# Altium footprint library Diodes.PcbLib: 28 footprints (part 1 of 2)
Each footprint in its own frame and in the unit in brackets; x right, y up, seen from the top. Pads: shape width x height; smd on the part's side, far side on the other; paste and mask are expansions set on the pad; w line width, h text height; cw(c..) or ccw(c..) is an arc to the next point about the centre after c.
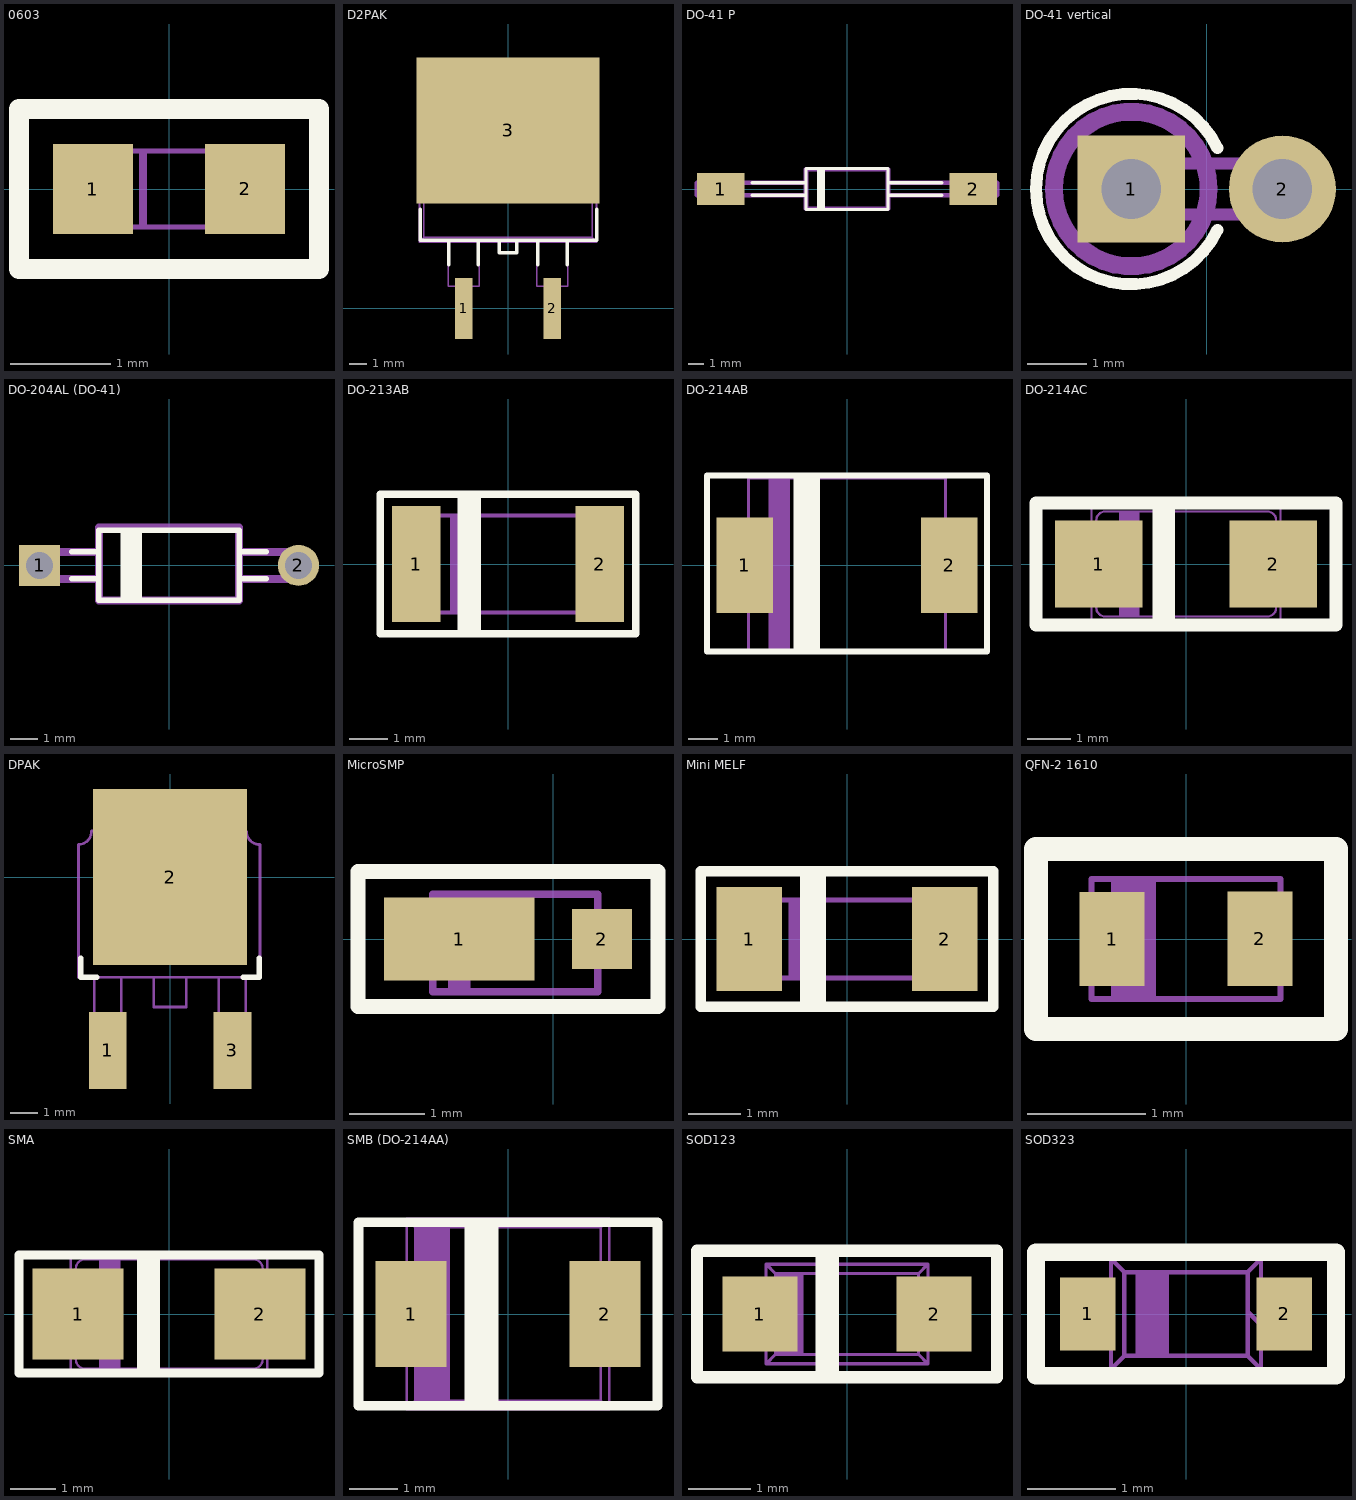
[diagram p0: the footprints below, top view; thin cyan lines are the x and y axes]

## 0603 [mm]
pads (2):
  rect 0.8x0.9 smd: 1(-0.762,0) 2(0.762,0)
Top Overlay:
  lines w0.2: -1.5,-0.8 1.5,-0.8 1.5,0.8 -1.5,0.8 -1.5,-0.8
Mechanical 1:
  lines w0.05: -0.762,-0.3 -0.475,-0.3 -0.475,0.291 -0.762,0.291 ; -0.762,0.2 cw(c-0.762,0) -0.762,-0.2 -0.762,-0.381 0.762,-0.381 0.762,-0.2 cw(c0.762,0) 0.762,0.2 ; -0.762,0.2 -0.762,0.381 0.762,0.381 0.762,0.2 ; -0.275,-0.381 -0.275,0.381 ; -0.244,-0.381 -0.244,0.381 ; 0.762,-0.3 0.475,-0.3 0.475,0.291 0.762,0.291
  text ".Designator" at -1.175,0.558 h0.7
  text ".Comment" at -0.457,-0.127 h0.51
3D body "0603.STEP": height 0.64, standoff -0.02, extent -0.8,-0.45 0.8,0.45

## D2PAK [mm]
pads (3):
  rect 1.016x3.504 smd: 1(-2.54,0) 2(2.54,0)
  rect 10.49x8.38 smd: 3(0,10.213)
Top Overlay:
  lines w0.2: -5.04,5.7 -5.04,3.922 5.1,3.922 5.1,5.7 ; -3.4,2.5 -3.4,3.922 ; -1.7,2.5 -1.7,3.922 ; -0.5,3.922 -0.5,3.2 0.5,3.2 0.5,3.922 ; 1.7,2.5 1.7,3.922 ; 3.4,2.5 3.4,3.922
Mechanical 1:
  lines w0.1: -3.429,3.81 -3.429,1.27 -2.921,1.27 -2.921,-1.143 -2.159,-1.143 -2.159,1.27 -1.651,1.27 -1.651,3.81 ; -0.508,3.81 -0.508,3.175 0.508,3.175 0.508,3.81 ; 1.651,3.81 1.651,1.27 2.159,1.27 2.159,-1.143 2.921,-1.143 2.921,1.27 3.429,1.27 3.429,3.81 ; -5.08,3.81 5.08,3.81 ; -5.08,3.81 -4.826,4.064 ; -5.08,3.81 -5.08,13.462 -4.445,14.097 4.445,14.097 5.08,13.462 5.08,3.81 ; -4.826,4.064 4.826,4.064 ; -4.826,4.064 -4.826,12.827 ; -4.826,12.827 4.826,12.827 ; -4.826,12.827 -5.08,13.081 5.08,13.081 4.826,12.827 ; 4.826,4.064 5.08,3.81 ; 4.826,4.064 4.826,12.827
  text "'.Comment'" at -4.699,4.191 h2
  text "'.Designator'" at 5.461,13.208 h2
3D body "D2PAK.step": height 4.88, standoff -0.13, extent -5.08,-1.161 5.08,14.103

## DO-41 P [mm]
pads (2):
  rect 3x2 smd: 1(-8,0) 2(8,0)
Top Overlay:
  rectangle: -1.9,-1.3 -1.4,1.3
  lines w0.2: -6,-0.4 -2.6,-0.4 ; -6,0.4 -2.6,0.4 ; 2.6,-0.4 6,-0.4 ; 2.6,0.4 6,0.4 ; -2.6,-1.3 -2.6,1.3 2.6,1.3 2.6,-1.3 -2.6,-1.3
Mechanical 1:
  lines w0.3: -2.6,-0.4 -9.5,-0.4 -9.5,0.4 -2.6,0.4 ; -1.75,-1.25 -1.75,1.25 ; 2.6,-0.4 9.5,-0.4 9.5,0.4 2.6,0.4 ; -2.6,-1.25 -2.6,1.25 2.6,1.25 2.6,-1.25 -2.6,-1.25
  text ".Comment" at -1.3,-0.7 h1.52
  text ".Designator" at -3,2 h1.52

## DO-41 vertical [mm]
pads (2):
  rect 1.8x1.8 hole 1: 1(-1.27,0)
  round 1.8 hole 1: 2(1.27,0)
Top Overlay:
  lines w0.2: 0.176,-0.689 cw(c-1.27,0) 0.176,0.689
Mechanical 3:
  circle w0.3: c-1.27,0 r1.3
  lines w0.2: -1.27,-0.43 cw(c-1.27,0) -1.27,0.43 1.27,0.43 cw(c1.27,0) 1.27,-0.43 -1.27,-0.43
  text ".Comment" at -2.642,-2.743 h2
  text ".Designator" at -2.692,1.524 h2
3D body "User Library-Diod DO-41 Vertical.STEP": height 10.64, standoff -3.5, extent -2.635,-1.365 1.7,1.365

## DO-204AL (DO-41) [mm]
pads (2):
  rect 1.524x1.524 hole 1: 1(-4.8,0)
  round 1.524 hole 1: 2(4.8,0)
Top Overlay:
  rectangle: -1.8,-1.3 -1,1.3
  lines w0.2: -3.6,-0.5 -2.6,-0.5 ; -3.6,0.5 -2.6,0.5 ; 2.6,-0.5 3.6,-0.5 ; 2.6,0.5 3.6,0.5 ; -2.6,-1.3 -2.6,1.3 2.6,1.3 2.6,-1.3 -2.6,-1.3
Mechanical 3:
  rectangle: -1.75,-1.3 -1,1.4
  lines w0.3: -2.6,-0.5 -5,-0.5 -5,0.5 -2.6,0.5 ; 2.6,-0.5 5,-0.5 5,0.5 2.6,0.5 ; -2.6,-1.3 -2.6,1.4 2.6,1.4 2.6,-1.3 -2.6,-1.3
  text ".Comment" at -0.75,-0.25 h1
  text ".Designator" at -2.25,1.75 h1
3D body "User Library-DO-41_375mil.STEP": height 3.33, standoff -2.02, extent -5.192,-1.3 5.192,1.4

## DO-213AB [mm]
pads (2):
  rect 1.25x3 smd: 1(-2.375,0) 2(2.375,0)
Top Overlay:
  rectangle: -1.3,-1.8 -0.7,1.8
  lines w0.2: -3.3,-1.8 3.3,-1.8 3.3,1.8 -3.3,1.8 -3.3,-1.8
Mechanical 1:
  rectangle: -1.5,-1.25 -1,1.25
  lines w0.1: -2,-1.25 -2,1.25 ; 2,-1.25 2,1.25 ; -2.5,-1.25 -2.5,1.25 2.5,1.25 2.5,-1.25 -2.5,-1.25
  text ".Comment" at -0.8,-0.5 h1
  text ".Designator" at -0.5,1.5 h1
3D body "DO-213AB.step": height 2.64, standoff -0.04, extent -2.6,-1.37 2.6,1.3

## DO-214AB [mm]
pads (2):
  rect 1.9x3.2 smd mask+0.076: 1(-3.429,0) 2(3.429,0)
Top Overlay:
  rectangle: -1.8,-2.9 -0.9,3
  lines w0.2: -4.7,-2.9 -4.7,3 4.7,3 4.7,-2.9 -4.7,-2.9
Mechanical 1:
  region: -1.905,2.921 -2.629,2.921 -2.629,-2.921 -1.905,-2.921
  lines w0.1: -3.302,-1.397 -3.81,-1.397 -3.81,1.397 -3.302,1.397 ; 3.302,-1.397 3.81,-1.397 3.81,1.397 3.302,1.397 ; -3.302,-2.921 3.302,-2.921 3.302,2.921 -3.302,2.921 -3.302,-2.921
  text ".Comment" at -1.397,-2.286 h0.8
  text ".Designator" at -0.635,3.302 h0.8
3D body "User Library-DO-214AB-SMC.step": height 2.45, standoff 0, extent -3.925,-2.95 3.875,2.95

## DO-214AC [mm]
pads (2):
  rect 2x2 smd mask+0.076: 1(-2,0) 2(2,0)
Top Overlay:
  rectangle: -0.762,-1.397 -0.254,1.397
  lines w0.3: -3.429,-1.397 -3.429,1.397 3.429,1.397 3.429,-1.397 -3.429,-1.397
Mechanical 1:
  region: -1.065,1.2 -1.535,1.2 -1.535,-1.2 -1.065,-1.2
  lines w0.05: -2.39,-0.68 -2.39,0.68 ; -2.16,-0.73 -2.61,-0.73 -2.61,0.73 -2.16,0.73 ; 2.16,-0.73 2.61,-0.73 2.61,0.73 2.16,0.73 ; 2.38,-0.68 2.38,0.68 ; -2.16,-1.3 2.16,-1.3 2.16,1.3 -2.16,1.3 -2.16,-1.3 ; -2.05,-1 ccw(c-1.85,-1) -1.85,-1.2 1.86,-1.2 ccw(c1.86,-1) 2.06,-1 2.06,1 ccw(c1.86,1) 1.86,1.2 -1.85,1.2 ccw(c-1.85,1) -2.05,1 -2.05,-1
  text ".Comment" at -1.9,-0.2 h0.8
  text ".Designator" at -2,1.425 h0.8
3D body "DO-214AC.step": height 2.6, standoff 0.03, extent -2.775,-1.4 2.725,1.4

## DPAK [mm]
pads (3):
  rect 1.4x2.85 smd: 1(-2.3,-6.4) 3(2.3,-6.4)
  rect 5.7x6.5 smd: 2(0,0)
Top Overlay:
  lines w0.2: -3.3,-3 -3.3,-3.7 -2.7,-3.7 ; 2.7,-3.7 3.3,-3.7 3.3,-3
Mechanical 1:
  lines w0.1: -2.9,1.7 cw(c-3.388,1.688) -3.375,1.2 -3.375,-3.7 3.325,-3.7 3.325,1.2 cw(c3.313,1.688) 2.825,1.675 ; -2.875,1.7 2.7,1.7 ; -2.8,-3.7 -2.8,-7 -2,-7 -1.8,-7 -1.8,-3.7 ; -2.7,1.73 -2.7,2.325 -2.025,3 -0.975,3 -0.975,2.575 1.025,2.575 1.025,3 1.975,3 2.7,2.275 2.7,1.7 ; -0.6,-3.7 -0.6,-4.8 0.6,-4.8 0.6,-3.7 ; 1.8,-3.7 1.8,-7 2,-7 2.8,-7 2.8,-3.7 ; 2.8,1.7 2.7,1.7
  text ".Designator" at -3.048,3.556 h1.52
  text ".Comment" at -3.175,-3.175 h1.52
3D body "User Library-DPAK_TO-252AA.step": height 2.37, standoff -0.03, extent -3.367,-7.098 3.367,3.002

## MicroSMP [mm]
pads (2):
  rect 2x1.1 smd: 1(-1.25,0)
  rect 0.8x0.8 smd: 2(0.65,0)
Top Overlay:
  lines w0.2: -2.6,-0.9 -2.6,0 -2.6,0.9 1.4,0.9 1.4,-0.9 -2.6,-0.9
Mechanical 1:
  rectangle: -1.4,-0.7 -1.1,0.6
  lines w0.1: -1.6,-0.3 -1.9,-0.3 -1.9,0.3 -1.6,0.3 ; 0.6,-0.3 0.9,-0.3 0.9,0.3 0.6,0.3 ; -1.6,-0.7 -1.6,0.6 0.6,0.6 0.6,-0.7 -1.6,-0.7
  text "'.Comment'" at -1.1,-0.3 h0.5
  text "'.Designator'" at -1.7,0.9 h1
3D body "User Library-MicroSMP-1.STEP": height 0.66, standoff -0.02, extent -1.55,-0.65 0.95,0.65

## Mini MELF [mm]
pads (2):
  rect 1.25x2 smd: 1(-1.875,0) 2(1.875,0)
Top Overlay:
  rectangle: -0.9,-1.3 -0.4,1.3
  lines w0.2: -2.8,-1.3 2.8,-1.3 2.8,1.3 -2.8,1.3 -2.8,-1.3
Mechanical 1:
  rectangle: -1.125,-0.75 -0.625,0.75
  lines w0.1: -1.75,-0.75 1.75,-0.75 1.75,0.75 -1.75,0.75 -1.75,-0.75
  text ".Designator" at -0.375,0.875 h0.8
  text ".Comment" at -0.55,-0.25 h0.8
3D body "Mini MELF.STEP": height 1.5, standoff 0, extent -1.75,-0.75 1.75,0.75

## QFN-2 1610 [mm]
pads (2):
  rect 0.55x0.8 smd: 1(-0.625,0) 2(0.625,0)
Top Overlay:
  lines w0.2: -1.27,-0.762 1.27,-0.762 1.27,0.762 -1.27,0.762 -1.27,-0.762
Mechanical 1:
  rectangle: -0.635,-0.508 -0.254,0.508
  lines w0.05: -0.8,-0.508 0.8,-0.508 0.8,0.508 -0.8,0.508 -0.8,-0.508
  text ".Designator" at -1.175,0.558 h0.7
  text ".Comment" at -0.2,-0.2 h0.51
3D body "QFN-1610.STEP": height 0.55, standoff -0.01, extent -0.8,-0.5 0.8,0.5

## SMA [mm]
pads (2):
  rect 2x2 smd mask+0.076: 1(-2,0) 2(2,0)
Top Overlay:
  rectangle: -0.7,-1.3 -0.2,1.3
  lines w0.2: -3.3,-1.3 -3.3,1.3 3.3,1.3 3.3,-1.3 -3.3,-1.3
Mechanical 1:
  region: -1.065,1.2 -1.535,1.2 -1.535,-1.2 -1.065,-1.2
  lines w0.05: -2.39,-0.68 -2.39,0.68 ; -2.16,-0.73 -2.61,-0.73 -2.61,0.73 -2.16,0.73 ; 2.16,-0.73 2.61,-0.73 2.61,0.73 2.16,0.73 ; 2.38,-0.68 2.38,0.68 ; -2.16,-1.3 2.16,-1.3 2.16,1.3 -2.16,1.3 -2.16,-1.3 ; -2.05,-1 ccw(c-1.85,-1) -1.85,-1.2 1.86,-1.2 ccw(c1.86,-1) 2.06,-1 2.06,1 ccw(c1.86,1) 1.86,1.2 -1.85,1.2 ccw(c-1.85,1) -2.05,1 -2.05,-1
  text ".Comment" at -1.9,-0.2 h0.8
  text ".Designator" at -2,1.425 h0.8
3D body "SMA.STEP": height 2.3, standoff 0, extent -2.6,-1.45 2.6,1.45

## SMB (DO-214AA) [mm]
pads (2):
  rect 1.47x2.2 smd mask+0.076: 1(-2.01,0) 2(2.01,0)
Top Overlay:
  rectangle: -0.9,-1.9 -0.2,1.9
  lines w0.2: -3.1,-1.9 3.1,-1.9 3.1,1.9 -3.1,1.9 -3.1,-1.9
Mechanical 1:
  rectangle: -1.925,-1.8 -1.2,1.8
  lines w0.05: -2.1,-1.05 -2.7,-1.05 -2.7,1.05 -2.1,1.05 ; 2.075,1.975 2.1,1.975 ; 2.1,-1.05 2.7,-1.05 2.7,1.05 2.1,1.05 ; -2.1,-1.975 2.1,-1.975 ; -2.1,-1.975 -2.1,1.975 ; -2.1,-1.975 -1.925,-1.8 ; -2.1,1.975 2.1,1.975 ; -2.1,1.975 -1.925,1.8 ; -1.925,-1.8 1.925,-1.8 ; -1.925,-1.8 -1.925,1.8 ; -1.925,1.8 -1.9,1.8 1.925,1.8 ; 1.925,-1.8 1.925,1.8 ; 1.925,-1.8 2.1,-1.975 ; 1.925,1.8 2.1,1.975 ; 2.1,-1.975 2.1,1.975
  text ".Comment" at -1.1,-0.2 h0.8
  text ".Designator" at -1.8,2.1 h0.8
3D body "SMB.step": height 2.45, standoff 0.03, extent -2.75,-1.95 2.75,1.95

## SOD123 [mm]
pads (2):
  rect 1.2x1.2 smd: 1(-1.4,0) 2(1.4,0)
Top Overlay:
  rectangle: -0.508,-1.016 -0.127,1.016
  lines w0.2: -2.413,-1.016 -2.413,1.016 2.413,1.016 2.413,-1.016 -2.413,-1.016
Mechanical 1:
  rectangle: -1.15,-0.65 -0.7,0.65
  lines w0.05: -1.3,-0.3 -1.75,-0.3 -1.75,0.3 -1.3,0.3 ; 1.3,-0.3 1.75,-0.3 1.75,0.3 1.3,0.3 ; -1.3,-0.8 -1.15,-0.65 ; -1.3,-0.8 -1.3,0.8 ; -1.3,-0.8 1.3,-0.8 ; -1.3,0.8 -1.15,0.65 ; -1.3,0.8 1.3,0.8 ; -1.15,-0.65 -1.15,0.65 ; -1.15,-0.65 1.15,-0.65 ; -1.15,0.65 1.15,0.65 ; 1.15,-0.65 1.15,0.65 ; 1.15,-0.65 1.3,-0.8 ; 1.15,0.65 1.3,0.8 ; 1.3,-0.8 1.3,0.8
  text ".Designator" at -1.6,0.9 h0.8
  text ".Comment" at -0.625,-0.275 h0.7
3D body "SOD-123.step": height 1.35, standoff 0, extent -1.85,-0.775 1.85,0.775

## SOD323 [mm]
pads (2):
  rect 0.63x0.83 smd: 1(-1.115,0) 2(1.115,0)
Top Overlay:
  lines w0.2: -1.7,-0.7 1.7,-0.7 1.7,0.7 -1.7,0.7 -1.7,-0.7
Mechanical 1:
  region: -0.192,0.475 -0.573,0.475 -0.573,-0.475 -0.192,-0.475
  lines w0.05: -1.05,-0.1 -1.05,0.1 ; -0.85,-0.15 -1.25,-0.15 -1.25,0.15 -0.85,0.15 ; 0.7,0.025 0.875,-0.15 1.275,-0.15 1.275,0.15 0.875,0.15 ; 1.075,-0.1 1.075,0.1 ; -0.85,-0.625 0.85,-0.625 ; -0.85,-0.625 -0.85,0.625 ; -0.85,-0.625 -0.7,-0.475 ; -0.85,0.625 0.85,0.625 ; -0.85,0.625 -0.85,0.625 ; -0.85,0.625 -0.7,0.475 ; -0.7,-0.475 -0.7,0.475 ; -0.7,-0.475 0.7,-0.475 ; -0.7,0.475 0.7,0.475 ; 0.7,-0.475 0.85,-0.625 ; 0.7,-0.475 0.7,0.475 ; 0.7,0.475 0.85,0.625 ; 0.85,-0.625 0.85,0.625
  text ".Designator" at -0.8,0.8 h0.8
  text ".Comment" at -0.2,-0.1 h0.4
3D body "SOD-323-2.step": height 1.1, standoff 0, extent -1.35,-0.625 1.35,0.625